# Altium footprint library DF10S.PcbLib: 1 footprints
Each footprint in its own frame and in the unit in brackets; x right, y up, seen from the top. Pads: shape width x height; smd on the part's side, far side on the other; paste and mask are expansions set on the pad; w line width, h text height; cw(c..) or ccw(c..) is an arc to the next point about the centre after c.
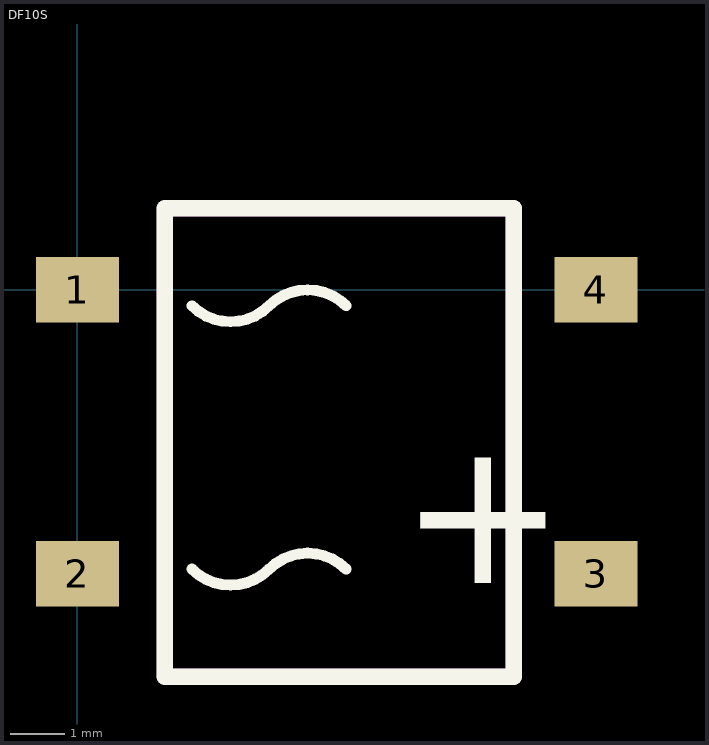
[diagram p0: the footprint, top view; thin cyan lines are the x and y axes]

## DF10S [mm]
pads (4):
  rect 1.52x1.2 smd: 1(0,0) 2(0,-5.2) 3(9.5,-5.2) 4(9.5,0)
Top Overlay:
  lines w0.2: 2.1,-5.116 ccw(c2.807,-4.409) 3.514,-5.116 cw(c4.221,-5.823) 4.928,-5.116 ; 2.1,-0.29 ccw(c2.807,0.417) 3.514,-0.29 cw(c4.221,-0.997) 4.928,-0.29
  lines w0.3: 1.6,-7.09 1.6,1.5 8,1.5 8,-7.09 1.6,-7.09
  text "-" at 5.9,-0.99 h5
  text "+" at 5.9,-6.324 h5
TopAssy:
  lines w0.3: 1.6,-7.09 1.6,1.5 8,1.5 8,-7.09 1.6,-7.09
3D body "User Library-DFXXS.step": height 3.65, standoff 0.08, extent -0.314,-6.863 9.986,1.647